# Altium schematic symbol library SS26FL.Schlib: 1 symbol
Pins are listed as number, name and electrical type; pins without a type are passive.

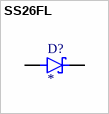
[diagram p0: symbol SS26FL]

## SS26FL
designator D?
pins: 1 K, 2 A